# Altium integrated library Altium Database Library V2.IntLib: 412 symbols (part 6 of 18)

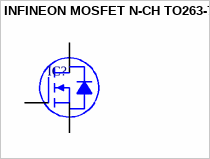
[diagram p115: symbol INFINEON MOSFET N-CH TO263-7]

## INFINEON MOSFET N-CH TO263-7
designator IC?
pins: 1 G, 2 S, 3 S, 5 S, 6 S, 7 S, 8 D


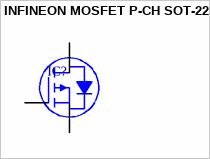
[diagram p116: symbol INFINEON MOSFET P-CH SOT-223]

## INFINEON MOSFET P-CH SOT-223
designator IC?
pins: 1 G, 2 D, 3 S, 4 D


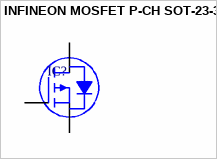
[diagram p117: symbol INFINEON MOSFET P-CH SOT-23-3]

## INFINEON MOSFET P-CH SOT-23-3
designator IC?
pins: 1 G, 2 S, 3 D


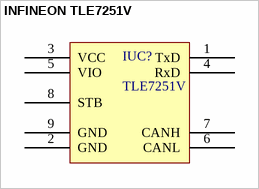
[diagram p118: symbol INFINEON TLE7251V]

## INFINEON TLE7251V
designator IUC?, comment TLE7251V
pins: 1 TxD, 2 GND, 3 VCC, 4 RxD, 5 VIO, 6 CANL, 7 CANH, 8 STB, 9 GND


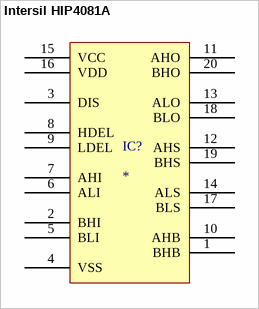
[diagram p119: symbol Intersil HIP4081A]

## Intersil HIP4081A
designator IC?
pins: 1 BHB, 2 BHI, 3 DIS, 4 VSS, 5 BLI, 6 ALI, 7 AHI, 8 HDEL, 9 LDEL, 10 AHB, 11 AHO, 12 AHS, 13 ALO, 14 ALS, 15 VCC, 16 VDD, 17 BLS, 18 BLO, 19 BHS, 20 BHO


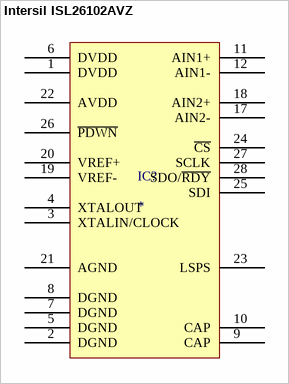
[diagram p120: symbol Intersil ISL26102AVZ]

## Intersil ISL26102AVZ
designator IC?
pins: 1 DVDD, 2 DGND, 3 XTALIN/CLOCK, 4 XTALOUT, 5 DGND, 6 DVDD, 7 DGND, 8 DGND, 9 CAP, 10 CAP, 11 AIN1+, 12 AIN1-, 17 AIN2-, 18 AIN2+, 19 VREF-, 20 VREF+, 21 AGND, 22 AVDD, 23 LSPS, 24 ~{CS}, 25 SDI, 26 ~{PDWN}, 27 SCLK, 28 SDO/~{RDY}


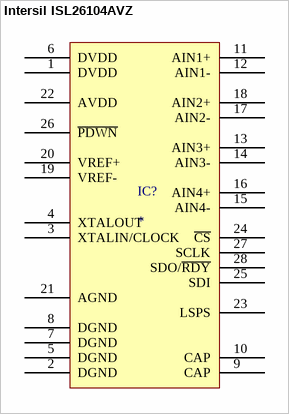
[diagram p121: symbol Intersil ISL26104AVZ]

## Intersil ISL26104AVZ
designator IC?
pins: 1 DVDD, 2 DGND, 3 XTALIN/CLOCK, 4 XTALOUT, 5 DGND, 6 DVDD, 7 DGND, 8 DGND, 9 CAP, 10 CAP, 11 AIN1+, 12 AIN1-, 13 AIN3+, 14 AIN3-, 15 AIN4-, 16 AIN4+, 17 AIN2-, 18 AIN2+, 19 VREF-, 20 VREF+, 21 AGND, 22 AVDD, 23 LSPS, 24 ~{CS}, 25 SDI, 26 ~{PDWN}, 27 SCLK, 28 SDO/~{RDY}


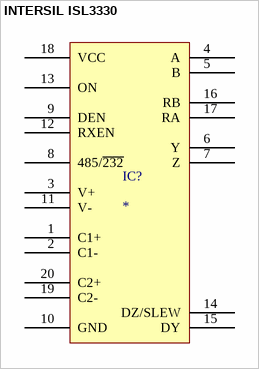
[diagram p122: symbol INTERSIL ISL3330]

## INTERSIL ISL3330
designator IC?
pins: 1 C1+, 2 C1-, 3 V+, 4 A, 5 B, 6 Y, 7 Z, 8 485/~{232}, 9 DEN, 10 GND, 11 V-, 12 RXEN, 13 ON, 14 DZ/SLEW, 15 DY, 16 RB, 17 RA, 18 VCC, 19 C2-, 20 C2+


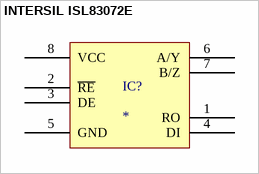
[diagram p123: symbol INTERSIL ISL83072E]

## INTERSIL ISL83072E
designator IC?
pins: 1 RO, 2 ~{RE}, 3 DE, 4 DI, 5 GND, 6 A/Y, 7 B/Z, 8 VCC


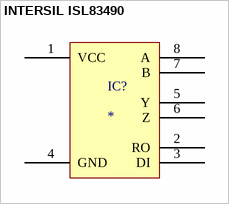
[diagram p124: symbol INTERSIL ISL83490]

## INTERSIL ISL83490
designator IC?
pins: 1 VCC, 2 RO, 3 DI, 4 GND, 5 Y, 6 Z, 7 B, 8 A


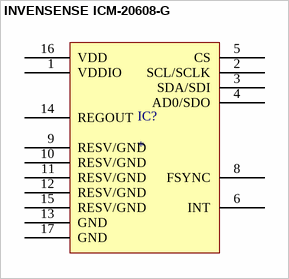
[diagram p125: symbol INVENSENSE ICM-20608-G]

## INVENSENSE ICM-20608-G
designator IC?
pins: 1 VDDIO, 2 SCL/SCLK, 3 SDA/SDI, 4 AD0/SDO, 5 CS, 6 INT, 8 FSYNC, 9 RESV/GND, 10 RESV/GND, 11 RESV/GND, 12 RESV/GND, 13 GND, 14 REGOUT, 15 RESV/GND, 16 VDD, 17 GND


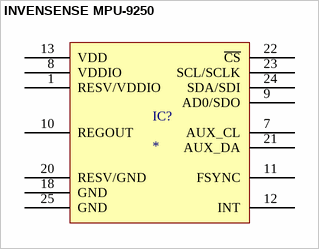
[diagram p126: symbol INVENSENSE MPU-9250]

## INVENSENSE MPU-9250
designator IC?
pins: 1 RESV/VDDIO, 7 AUX_CL, 8 VDDIO, 9 AD0/SDO, 10 REGOUT, 11 FSYNC, 12 INT, 13 VDD, 18 GND, 20 RESV/GND, 21 AUX_DA, 22 ~{CS}, 23 SCL/SCLK, 24 SDA/SDI, 25 GND


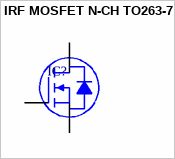
[diagram p127: symbol IRF MOSFET N-CH TO263-7]

## IRF MOSFET N-CH TO263-7
designator IC?
pins: 1 G, 2 S, 3 S, 5 S, 6 S, 7 S, 8 D


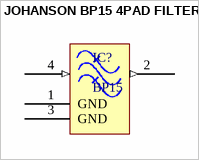
[diagram p128: symbol JOHANSON BP15 4PAD FILTER]

## JOHANSON BP15 4PAD FILTER
designator IC?, comment BP15
pins: 1 GND "Desc1", 2 OUT (out) "Desc1", 3 GND "Desc1", 4 IN (in) "Desc1"


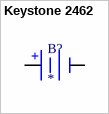
[diagram p129: symbol Keystone 2462]

## Keystone 2462
designator B?
pins: 1 +, 2 -


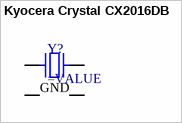
[diagram p130: symbol Kyocera Crystal CX2016DB]

## Kyocera Crystal CX2016DB
designator Y?
SMT Crystal
pins: 1, 2 GND, 3, 4 GND


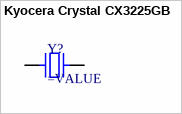
[diagram p131: symbol Kyocera Crystal CX3225GB]

## Kyocera Crystal CX3225GB
designator Y?
SMT Crystal
pins: 1, 3


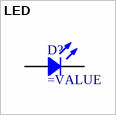
[diagram p132: symbol LED]

## LED
designator D?
Chip LED
pins: 1, 2


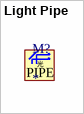
[diagram p133: symbol Light Pipe]

## Light Pipe
designator M?
text: 光; PIPE


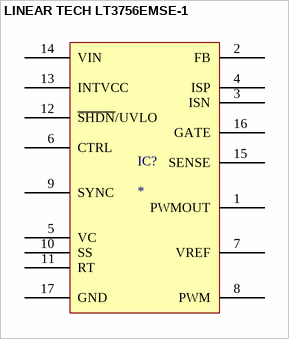
[diagram p134: symbol LINEAR TECH LT3756EMSE-1]

## LINEAR TECH LT3756EMSE-1
designator IC?
pins: 1 PWMOUT, 2 FB, 3 ISN, 4 ISP, 5 VC, 6 CTRL, 7 VREF, 8 PWM, 9 SYNC, 10 SS, 11 RT, 12 ~{SHDN}/UVLO, 13 INTVCC, 14 VIN, 15 SENSE, 16 GATE, 17 GND


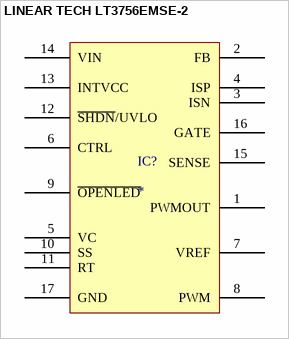
[diagram p135: symbol LINEAR TECH LT3756EMSE-2]

## LINEAR TECH LT3756EMSE-2
designator IC?
pins: 1 PWMOUT, 2 FB, 3 ISN, 4 ISP, 5 VC, 6 CTRL, 7 VREF, 8 PWM, 9 ~{OPENLED}, 10 SS, 11 RT, 12 ~{SHDN}/UVLO, 13 INTVCC, 14 VIN, 15 SENSE, 16 GATE, 17 GND


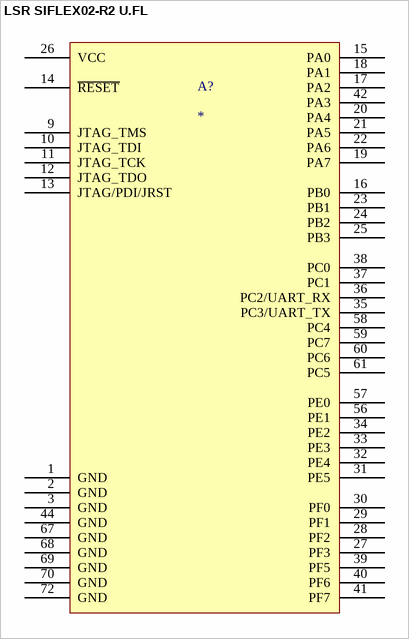
[diagram p136: symbol LSR SIFLEX02-R2 U.FL]

## LSR SIFLEX02-R2 U.FL
designator A?
pins: 1 GND, 2 GND, 3 GND, 9 JTAG_TMS, 10 JTAG_TDI, 11 JTAG_TCK, 12 JTAG_TDO, 13 JTAG/PDI/JRST, 14 ~{RESET}, 15 PA0, 16 PB0, 17 PA2, 18 PA1, 19 PA7, 20 PA4, 21 PA5, 22 PA6, 23 PB1, 24 PB2, 25 PB3, 26 VCC, 27 PF3, 28 PF2, 29 PF1, 30 PF0, 31 PE5, 32 PE4, 33 PE3, 34 PE2, 35 PC3/UART_TX, 36 PC2/UART_RX, 37 PC1, 38 PC0, 39 PF5, 40 PF6, 41 PF7, 42 PA3, 44 GND, 56 PE1, 57 PE0, 58 PC4, 59 PC7, 60 PC6, 61 PC5, 67 GND, 68 GND, 69 GND, 70 GND, 72 GND


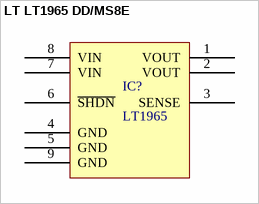
[diagram p137: symbol LT LT1965 DD/MS8E]

## LT LT1965 DD/MS8E
designator IC?, comment LT1965
1.1A, Low Noise, Low Dropout Linear Regulator
pins: 1 VOUT, 2 VOUT, 3 SENSE, 4 GND, 5 GND, 6 ~{SHDN}, 7 VIN, 8 VIN, 9 GND
